# Altium schematic symbol library SCH - DRIVER - LED - TI UCC25705_D_8.SchLib: 1 symbol
Pins are listed as number, name and electrical type; pins without a type are passive.

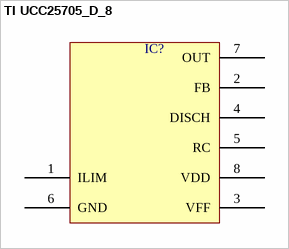
[diagram p0: symbol TI UCC25705_D_8]

## TI UCC25705_D_8
designator IC?  (value not drawn)
pins: 1 ILIM, 2 FB, 3 VFF, 4 DISCH, 5 RC, 6 GND, 7 OUT, 8 VDD